# EAGLE library part TCM1-382WX+ (library TCM1-382WX+)
Audio Transformers / Signal Transformers 1:1 CORE & WIRE Transformer, 0.5 - 3800 MHz, 50? Source: Datasheet <https://www.mouser.kr/datasheet/2/1030/TCM1_382WX_2b-3105014.pdf>
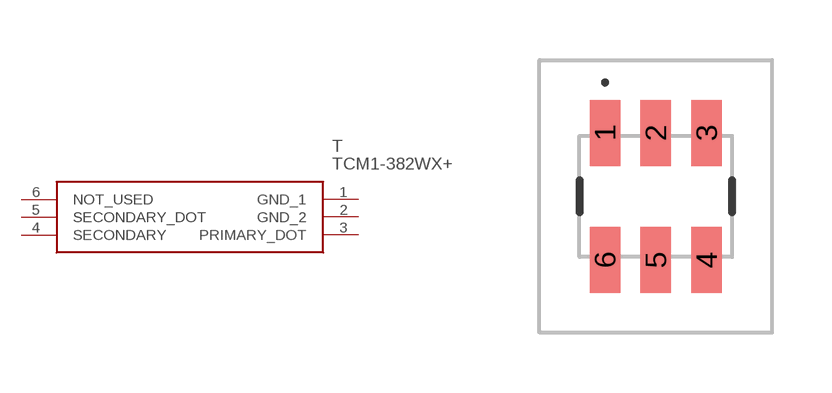
[diagram p0: symbol with the pads of TCM1382WX; footprint TCM1382WX]

Designator prefix T

## TCM1-382WX+ (Description: Audio Transformers / Signal Transformers 1:1 CORE & WIRE Transformer, 0.5 - 3800 MHz, 50?; Height: 4.06mm; Manufacturer_Name: Mini-Circuits; Manufacturer_Part_Number: TCM1-382WX+; Mouser_Part_Number: 139-TCM1-382WX; Mouser_Price-Stock: https://www.mouser.co.uk/ProductDetail/Mini-Circuits/TCM1-382WX%2b?qs=amGC7iS6iy9TpOSpP5xMJQ%3D%3D)  [TCM1382WX]
1  GND_1
2  GND_2
3  PRIMARY_DOT
4  SECONDARY
5  SECONDARY_DOT
6  NOT_USED

## Footprint TCM1382WX (pad centres in mm)
DB1627(H=4.06mm)
smd 0.76 x 1.65: 1 -1.27,1.59; 2 0,1.59; 3 1.27,1.59; 4 1.27,-1.59; 5 0,-1.59; 6 -1.27,-1.59